# Altium schematic symbol library LTST-C230KFKT.SchLib: 1 symbol
Pins are listed as number, name and electrical type; pins without a type are passive.

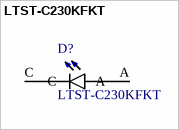
[diagram p0: symbol LTST-C230KFKT]

## LTST-C230KFKT
designator D?
LED; SMD; 1206; orange; 45-90mcd; 3.2x1.6x1.1mm; 130Â°; 2Ã·2.4V; 20mA; MF: Lite-On Inc.; MP: LTST-C230KFKT; Package: 1206 Lite-On; Availability: Unavailable; Price: None; SnapEDA_Link: https://www.snapeda.com/parts/LTST-C230KFKT/Lite-On%20Inc./view-part/?ref=snap; Value: *
footprint *LEDC3216X110_LTST-C230KFKT(Primary)
pins: A, C